# Altium footprint library mechanical.PcbLib: 5 footprints
Each footprint in its own frame and in the unit in brackets; x right, y up, seen from the top. Pads: shape width x height; smd on the part's side, far side on the other; paste and mask are expansions set on the pad; w line width, h text height; cw(c..) or ccw(c..) is an arc to the next point about the centre after c.
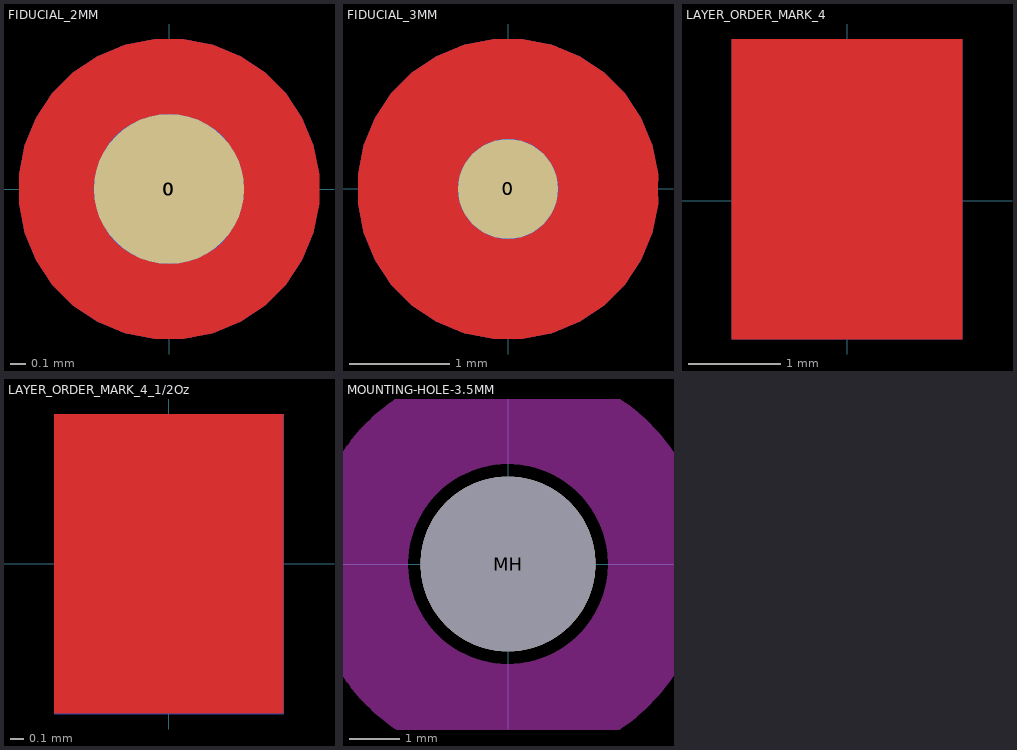
[diagram p0: the footprints below, top view; thin cyan lines are the x and y axes]

## FIDUCIAL_2MM [mm]
pads (2):
  round 1 smd far side paste+0 mask+0.5: 0(0,0)
  round 1 smd paste+0 mask+0.5: 0(0,0)
Top Layer:
  pour cut-out: 0,-1 -0.098,-1 -0.292,-0.962 -0.474,-0.886 -0.637,-0.777 -0.777,-0.637 -0.886,-0.474 -0.962,-0.292 -1,-0.098 -1,0 -1,0.098 -0.962,0.292 -0.886,0.474 -0.777,0.637 -0.637,0.777 -0.474,0.886 -0.292,0.962 -0.098,1 0,1 0.098,1 0.292,0.962 0.474,0.886 0.637,0.777 0.777,0.637 0.886,0.474 0.962,0.292 1,0.098 1,0 1,-0.098 0.962,-0.292 0.886,-0.474 0.777,-0.637 0.637,-0.777 0.474,-0.886 0.292,-0.962 0.098,-1
Bottom Layer:
  pour cut-out: 0,-1 -0.099,-1 -0.292,-0.962 -0.474,-0.886 -0.637,-0.777 -0.777,-0.637 -0.886,-0.474 -0.962,-0.292 -1,-0.098 -1,0 -1,0.098 -0.962,0.292 -0.886,0.474 -0.777,0.637 -0.637,0.777 -0.474,0.886 -0.292,0.962 -0.099,1 0,1 0.098,1 0.292,0.962 0.474,0.886 0.637,0.777 0.777,0.637 0.886,0.474 0.962,0.292 1,0.098 1,0 1,-0.098 0.962,-0.292 0.886,-0.474 0.777,-0.637 0.637,-0.777 0.474,-0.886 0.292,-0.962 0.098,-1

## FIDUCIAL_3MM [mm]
pads (2):
  round 1 smd far side paste+0 mask+1: 0(0,0)
  round 1 smd paste+0 mask+1: 0(0,0)
Top Layer:
  pour cut-out: -1.5,0 -1.5,-0.148 -1.442,-0.438 -1.329,-0.711 -1.165,-0.956 -0.956,-1.165 -0.711,-1.329 -0.438,-1.442 -0.148,-1.5 0,-1.5 0.148,-1.5 0.438,-1.442 0.711,-1.329 0.956,-1.165 1.165,-0.956 1.329,-0.711 1.442,-0.438 1.5,-0.148 1.5,0 1.5,0.148 1.442,0.438 1.329,0.71 1.165,0.956 0.956,1.165 0.711,1.329 0.438,1.442 0.148,1.5 0,1.5 -0.148,1.5 -0.438,1.442 -0.711,1.329 -0.956,1.165 -1.165,0.956 -1.329,0.711 -1.442,0.438 -1.5,0.148
Bottom Layer:
  pour cut-out: -1.5,0 -1.5,-0.148 -1.442,-0.438 -1.329,-0.711 -1.165,-0.956 -0.956,-1.165 -0.711,-1.329 -0.438,-1.442 -0.148,-1.5 0,-1.5 0.148,-1.5 0.438,-1.442 0.71,-1.329 0.956,-1.165 1.165,-0.956 1.329,-0.711 1.442,-0.438 1.5,-0.148 1.5,0 1.5,0.148 1.442,0.438 1.329,0.71 1.165,0.956 0.956,1.165 0.71,1.329 0.437,1.442 0.148,1.5 0,1.5 -0.148,1.5 -0.438,1.442 -0.711,1.329 -0.956,1.165 -1.165,0.956 -1.329,0.711 -1.442,0.438 -1.5,0.148

## LAYER_ORDER_MARK_4 [mm]
Top Layer:
  pour cut-out: -1.25,1.75 -1.25,-1.5 1.25,-1.5 1.25,1.75
  text "1" at -0.55,0.2 h1
Mid-Layer 1:
  pour cut-out: -1.25,1.75 -1.25,-1.5 1.25,-1.5 1.25,1.75
  text "2" at 0.2,0.2 h1
Mid-Layer 2:
  pour cut-out: -1.25,1.75 -1.25,-1.5 1.25,-1.5 1.25,1.75
  text "3" at -0.8,-1.05 h1
Bottom Layer:
  pour cut-out: -1.25,1.75 -1.25,-1.5 1.25,-1.5 1.25,1.75
  text "4" at 0.2,-1.05 h1

## LAYER_ORDER_MARK_4_1/2Oz [mm]
Top Layer:
  pour cut-out: -0.859,1.122 -0.859,-1.122 0.859,-1.122 0.859,1.122
  text "1" at -0.415,0.098 h0.7
Mid-Layer 1:
  pour cut-out: -0.857,1.122 -0.857,-1.127 0.86,-1.127 0.86,1.122
  text "2" at 0.068,0.098 h0.7
Mid-Layer 2:
  pour cut-out: -0.857,1.122 -0.857,-1.127 0.859,-1.127 0.859,1.122
  text "3" at -0.532,-0.802 h0.7
Bottom Layer:
  pour cut-out: -0.859,1.122 -0.859,-1.127 0.86,-1.127 0.86,1.122
  text "4" at 0.068,-0.802 h0.7

## MOUNTING-HOLE-3.5MM [mm]
pads (1):
  round 3.5 hole 3.5 unplated: MH(0,0)
Keep-Out Layer:
  circle w2: c0,0 r3